# EAGLE library part 74*138 (library 74ttl-din)
3-line to 8-line DECODER/DEMULTIPLEXER
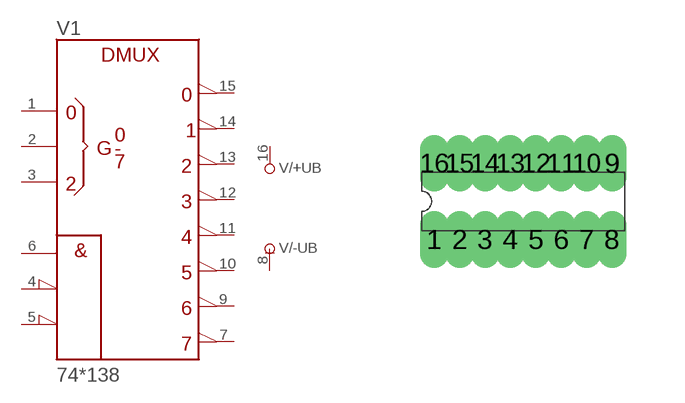
[diagram p38: symbol with the pads of DIL16; footprint DIL16]

Designator prefix V; gates /+UB=+UB /-UB=-UB 1=138

## 74138N  [DIL16]
1  1:A  in
2  1:B  in
3  1:C  in
4  1:!G2A  in
5  1:!G2B  in
6  1:G1  in
7  1:Y7  out
8  /-UB:-UB  pwr
9  1:Y6  out
10  1:Y5  out
11  1:Y4  out
12  1:Y3  out
13  1:Y2  out
14  1:Y1  out
15  1:Y0  out
16  /+UB:+UB  pwr

## Footprint DIL16 (pad centres in mm)
Dual In Line Package
drill 0.203 long: 1 -2.223,-0.953; 2 -1.587,-0.953; 3 -0.953,-0.953; 4 -0.318,-0.953; 5 0.318,-0.953; 6 0.953,-0.953; 7 1.587,-0.953; 8 2.223,-0.953; 9 2.223,0.953; 10 1.587,0.953; 11 0.953,0.953; 12 0.318,0.953; 13 -0.318,0.953; 14 -0.953,0.953; 15 -1.587,0.953; 16 -2.223,0.953